# Altium footprint library Sensors.PcbLib: 2 footprints
Each footprint in its own frame and in the unit in brackets; x right, y up, seen from the top. Pads: shape width x height; smd on the part's side, far side on the other; paste and mask are expansions set on the pad; w line width, h text height; cw(c..) or ccw(c..) is an arc to the next point about the centre after c.
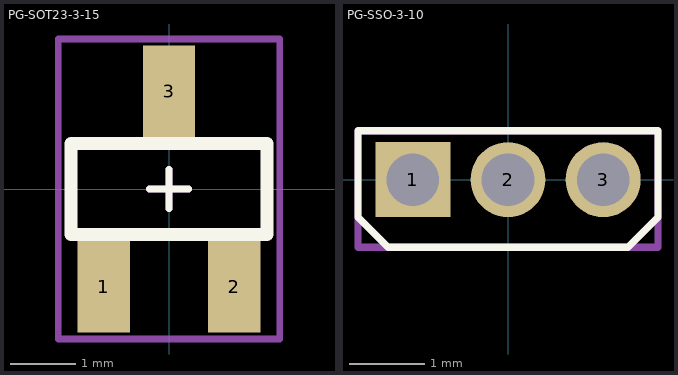
[diagram p0: the footprints below, top view; thin cyan lines are the x and y axes]

## PG-SOT23-3-15 [mm]
pads (3):
  rect 0.8x1.4 smd paste+0 mask+0: 1(-1,-1.5) 2(1,-1.5) 3(0,1.5)
Top Overlay:
  lines w0.1: -0.3,0 0.3,0 ; 0,-0.3 0,0.3
  lines w0.2: -1.5,-0.7 1.5,-0.7 1.5,0.7 -1.5,0.7 -1.5,-0.7
Border:
  lines w0.1: -0.3,0 0.3,0 ; 0,-0.3 0,0.3 ; -1.7,-2.3 -1.7,2.3 1.7,2.3 1.7,-2.3 -1.7,-2.3

## PG-SSO-3-10 [mm]
pads (3):
  rect 1x1 hole 0.7: 1(-1.27,0)
  round 1 hole 0.7: 2(0,0) 3(1.27,0)
Top Overlay:
  lines w0.1: -2,-0.5 -1.6,-0.9 1.6,-0.9 2,-0.5 2,0.65 -2,0.65 -2,-0.5
Border:
  lines w0.1: -2,-0.9 2,-0.9 2,0.65 -2,0.65 -2,-0.9
3D body "Датчик холла TLE4997E2.stp": height 7.55, standoff -3, extent -2.03,-0.86 2.03,0.64